# EAGLE library part CY8C3XXX-48PIN (library cypress_psoc_V1_0)
Cypress PSoC® 3 - Programmable System on Chip, 8051 Based Source Data: http://www.cypress.com/?mpn=CY8C3866PVI-021 LBR Source: http://www.westmarkelectronics.com Thomas W. Moxon Director of Engineering www.westmarkelectronics.com
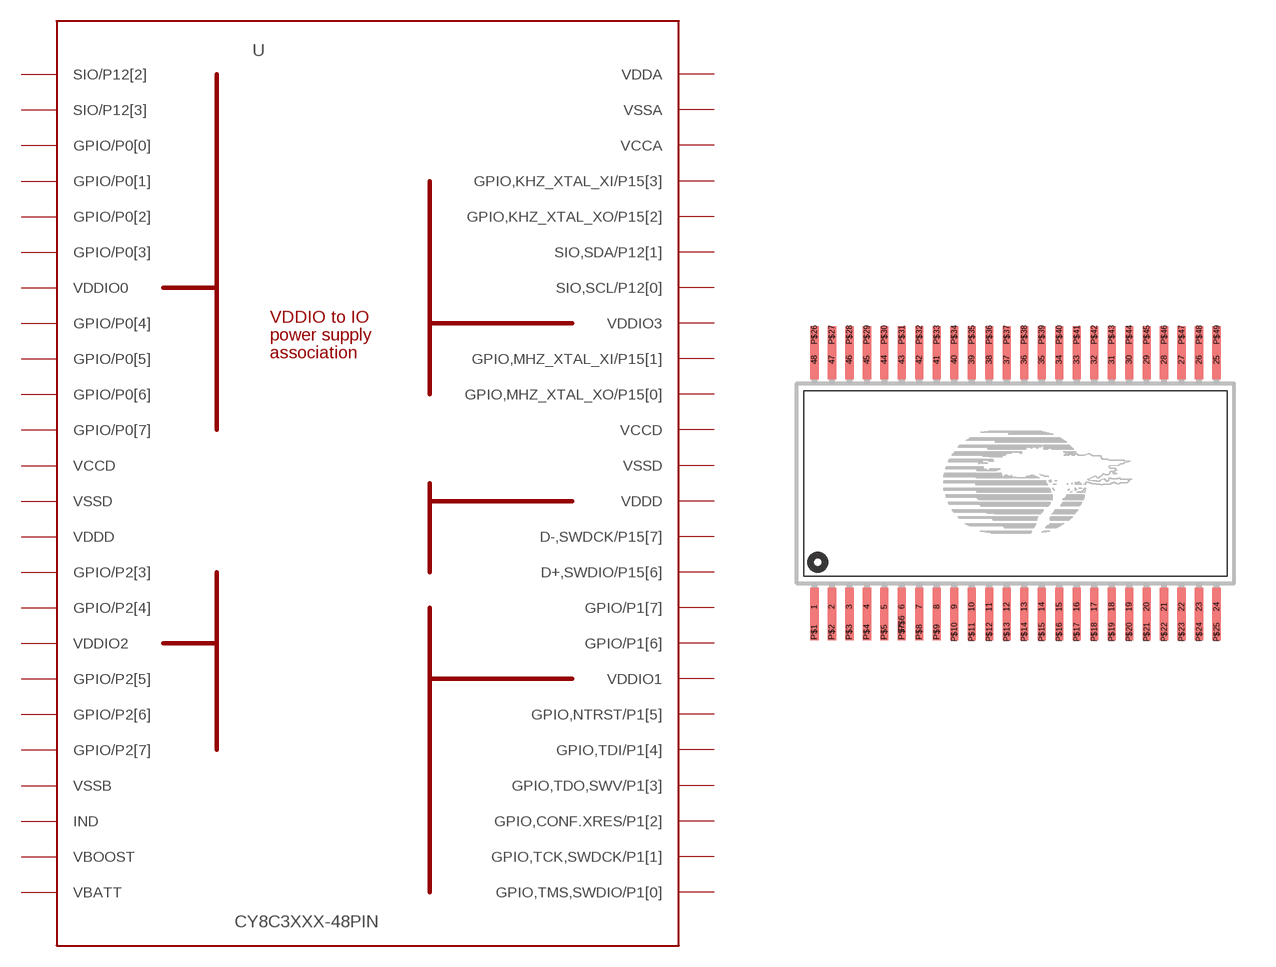
[diagram p1: symbol with the pads of SSOP48LD; footprint SSOP48LD]

Designator prefix U

## CY8C3XXX-48PIN (MPN: CY8C3866PVI-021)  [SSOP48LD]
1  SIO/P12[2]
2  SIO/P12[3]
3  GPIO/P0[0]
4  GPIO/P0[1]
5  GPIO/P0[2]
6  GPIO/P0[3]
7  VDDIO0  pwr
8  GPIO/P0[4]
9  GPIO/P0[5]
10  GPIO/P0[6]
11  GPIO/P0[7]
12  VCCD  pwr
13  VSSD  pwr
14  VDDD  pwr
15  GPIO/P2[3]
16  GPIO/P2[4]
17  VDDIO2  pwr
18  GPIO/P2[5]
19  GPIO/P2[6]
20  GPIO/P2[7]
21  VSSB  pwr
22  IND
23  VBOOST
24  VBATT
25  GPIO,TMS,SWDIO/P1[0]
26  GPIO,TCK,SWDCK/P1[1]
27  GPIO,CONF.XRES/P1[2]
28  GPIO,TDO,SWV/P1[3]
29  GPIO,TDI/P1[4]
30  GPIO,NTRST/P1[5]
31  VDDIO1  pwr
32  GPIO/P1[6]
33  GPIO/P1[7]
34  D+,SWDIO/P15[6]
35  D-,SWDCK/P15[7]
36  VDDD
37  VSSD
38  VCCD
39  GPIO,MHZ_XTAL_XO/P15[0]
40  GPIO,MHZ_XTAL_XI/P15[1]
41  VDDIO3
42  SIO,SCL/P12[0]  out
43  SIO,SDA/P12[1]
44  GPIO,KHZ_XTAL_XO/P15[2]
45  GPIO,KHZ_XTAL_XI/P15[3]
46  VCCA
47  VSSA
48  VDDA

## Footprint SSOP48LD (pad centres in mm)
SSOP-48 Shrink Small Outline Package with 48 pins 48LD SSOP .240 mil Data Source: http://www.cypress.com/?docID=20442 Shrink Small Outline Package with 48 pins 48LD SSOP .210 mil Data Source: http://www.cypress.com/?docID=20442 LBR Source: http://www.westmarkelectronics.com LBR Source: http://www.westmarkelectronics.com
smd 0.305 x 1.397: 1 -7.303,-4.483; 2 -6.668,-4.483; 3 -6.032,-4.483; 4 -5.397,-4.483; 5 -4.763,-4.483; 6 -4.128,-4.483; 7 -3.493,-4.483; 8 -2.857,-4.483; 9 -2.223,-4.483; 10 -1.587,-4.483; 11 -0.953,-4.483; 12 -0.318,-4.483; 13 0.318,-4.483; 14 0.953,-4.483; 15 1.587,-4.483; 16 2.223,-4.483; 17 2.857,-4.483; 18 3.493,-4.483; 19 4.128,-4.483; 20 4.763,-4.483; 21 5.397,-4.483; 22 6.032,-4.483; 23 6.668,-4.483; 24 7.303,-4.483; 25 7.303,4.483; 26 6.668,4.483; 27 6.032,4.483; 28 5.397,4.483; 29 4.763,4.483; 30 4.128,4.483; 31 3.493,4.483; 32 2.857,4.483; 33 2.223,4.483; 34 1.587,4.483; 35 0.953,4.483; 36 0.318,4.483; 37 -0.318,4.483; 38 -0.953,4.483; 39 -1.587,4.483; 40 -2.223,4.483; 41 -2.857,4.483; 42 -3.493,4.483; 43 -4.128,4.483; 44 -4.763,4.483; 45 -5.397,4.483; 46 -6.032,4.483; 47 -6.668,4.483; 48 -7.303,4.483
smd 0.305 x 0.61: P$1 -7.303,-5.397; P$2 -6.668,-5.397; P$3 -6.032,-5.397; P$4 -5.397,-5.397; P$5 -4.763,-5.397; P$6 -4.128,-5.08; P$7 -4.128,-5.397; P$8 -3.493,-5.397; P$9 -2.857,-5.397; P$10 -2.223,-5.397; P$11 -1.587,-5.397; P$12 -0.953,-5.397; P$13 -0.318,-5.397; P$14 0.318,-5.397; P$15 0.953,-5.397; P$16 1.587,-5.397; P$17 2.223,-5.397; P$18 2.857,-5.397; P$19 3.493,-5.397; P$20 4.128,-5.397; P$21 4.763,-5.397; P$22 5.397,-5.397; P$23 6.032,-5.397; P$24 6.668,-5.397; P$25 7.303,-5.397; P$26 -7.303,5.397; P$27 -6.668,5.397; P$28 -6.032,5.397; P$29 -5.397,5.397; P$30 -4.763,5.397; P$31 -4.128,5.397; P$32 -3.493,5.397; P$33 -2.857,5.397; P$34 -2.223,5.397; P$35 -1.587,5.397; P$36 -0.953,5.397; P$37 -0.318,5.397; P$38 0.318,5.397; P$39 0.953,5.397; P$40 1.587,5.397; P$41 2.223,5.397; P$42 2.857,5.397; P$43 3.493,5.397; P$44 4.128,5.397; P$45 4.763,5.397; P$46 5.397,5.397; P$47 6.032,5.397; P$48 6.668,5.397; P$49 7.303,5.397